# EAGLE library part DECADE-74LVC125A (library DECADE-libraries)
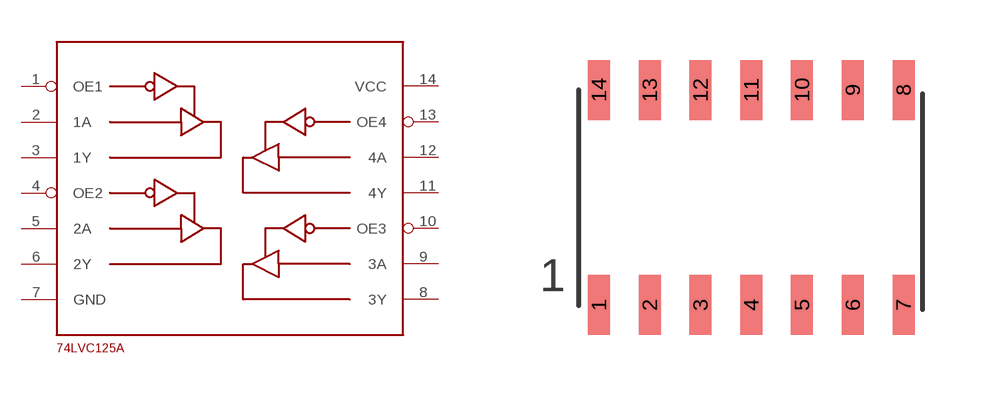
[diagram p19: symbol with the pads of DECADE-SO-14; footprint DECADE-SO-14]

Designator prefix -

## DECADE-74LVC125A  [DECADE-SO-14]
1  OE1
2  1A
3  1Y
4  OE2
5  2A
6  2Y
7  GND
8  3Y
9  3A
10  OE3
11  4Y
12  4A
13  OE4
14  VCC

## Footprint DECADE-SO-14 (pad centres in mm)
smd 0.55 x 1.5: 1 -3.6,-2.88; 2 -2.33,-2.88; 3 -1.06,-2.88; 4 0.21,-2.88; 5 1.48,-2.88; 6 2.75,-2.88; 7 4.02,-2.88; 8 4.02,2.5; 9 2.75,2.5; 10 1.48,2.5; 11 0.21,2.5; 12 -1.06,2.5; 13 -2.33,2.5; 14 -3.6,2.5